# EAGLE library part EFM32G880F64 (library EnergyMicro)
EFM32G880F64 Gecko Microcontroller in 14mm x 14mm QFP100 package
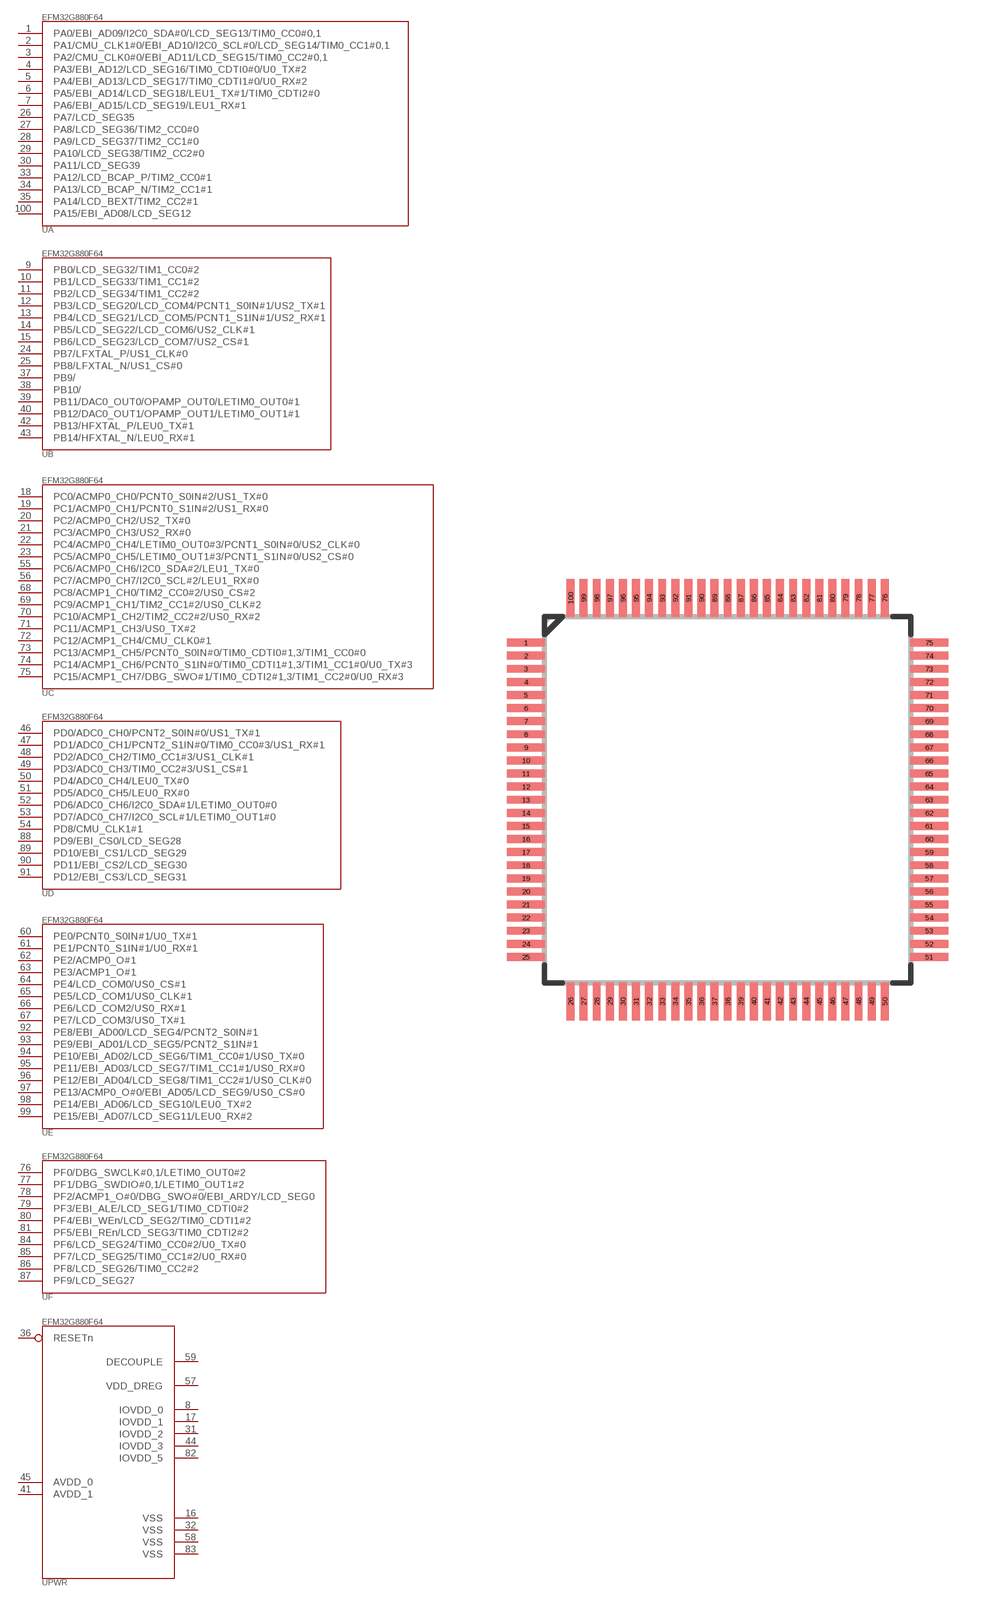
[diagram p27: symbol with the pads of QFP100; footprint QFP100]

Designator prefix -; gates A=EFM32G880F64_A B=EFM32G880F64_B C=EFM32G880F64_C D=EFM32G880F64_D E=EFM32G880F64_E F=EFM32G880F64_F PWR=EFM32G880F64_PWR

## EFM32G880F64  [QFP100]
1  A:PA0/EBI_AD09/I2C0_SDA#0/LCD_SEG13/TIM0_CC0#0,1
2  A:PA1/CMU_CLK1#0/EBI_AD10/I2C0_SCL#0/LCD_SEG14/TIM0_CC1#0,1
3  A:PA2/CMU_CLK0#0/EBI_AD11/LCD_SEG15/TIM0_CC2#0,1
4  A:PA3/EBI_AD12/LCD_SEG16/TIM0_CDTI0#0/U0_TX#2
5  A:PA4/EBI_AD13/LCD_SEG17/TIM0_CDTI1#0/U0_RX#2
6  A:PA5/EBI_AD14/LCD_SEG18/LEU1_TX#1/TIM0_CDTI2#0
7  A:PA6/EBI_AD15/LCD_SEG19/LEU1_RX#1
8  PWR:IOVDD_0  pwr
9  B:PB0/LCD_SEG32/TIM1_CC0#2
10  B:PB1/LCD_SEG33/TIM1_CC1#2
11  B:PB2/LCD_SEG34/TIM1_CC2#2
12  B:PB3/LCD_SEG20/LCD_COM4/PCNT1_S0IN#1/US2_TX#1
13  B:PB4/LCD_SEG21/LCD_COM5/PCNT1_S1IN#1/US2_RX#1
14  B:PB5/LCD_SEG22/LCD_COM6/US2_CLK#1
15  B:PB6/LCD_SEG23/LCD_COM7/US2_CS#1
16  PWR:VSS  pwr
17  PWR:IOVDD_1  pwr
18  C:PC0/ACMP0_CH0/PCNT0_S0IN#2/US1_TX#0
19  C:PC1/ACMP0_CH1/PCNT0_S1IN#2/US1_RX#0
20  C:PC2/ACMP0_CH2/US2_TX#0
21  C:PC3/ACMP0_CH3/US2_RX#0
22  C:PC4/ACMP0_CH4/LETIM0_OUT0#3/PCNT1_S0IN#0/US2_CLK#0
23  C:PC5/ACMP0_CH5/LETIM0_OUT1#3/PCNT1_S1IN#0/US2_CS#0
24  B:PB7/LFXTAL_P/US1_CLK#0
25  B:PB8/LFXTAL_N/US1_CS#0
26  A:PA7/LCD_SEG35
27  A:PA8/LCD_SEG36/TIM2_CC0#0
28  A:PA9/LCD_SEG37/TIM2_CC1#0
29  A:PA10/LCD_SEG38/TIM2_CC2#0
30  A:PA11/LCD_SEG39
31  PWR:IOVDD_2  pwr
32  PWR:VSS  pwr
33  A:PA12/LCD_BCAP_P/TIM2_CC0#1
34  A:PA13/LCD_BCAP_N/TIM2_CC1#1
35  A:PA14/LCD_BEXT/TIM2_CC2#1
36  PWR:RESETn  pas
37  B:PB9/
38  B:PB10/
39  B:PB11/DAC0_OUT0/OPAMP_OUT0/LETIM0_OUT0#1
40  B:PB12/DAC0_OUT1/OPAMP_OUT1/LETIM0_OUT1#1
41  PWR:AVDD_1  pwr
42  B:PB13/HFXTAL_P/LEU0_TX#1
43  B:PB14/HFXTAL_N/LEU0_RX#1
44  PWR:IOVDD_3  pwr
45  PWR:AVDD_0  pwr
46  D:PD0/ADC0_CH0/PCNT2_S0IN#0/US1_TX#1
47  D:PD1/ADC0_CH1/PCNT2_S1IN#0/TIM0_CC0#3/US1_RX#1
48  D:PD2/ADC0_CH2/TIM0_CC1#3/US1_CLK#1
49  D:PD3/ADC0_CH3/TIM0_CC2#3/US1_CS#1
50  D:PD4/ADC0_CH4/LEU0_TX#0
51  D:PD5/ADC0_CH5/LEU0_RX#0
52  D:PD6/ADC0_CH6/I2C0_SDA#1/LETIM0_OUT0#0
53  D:PD7/ADC0_CH7/I2C0_SCL#1/LETIM0_OUT1#0
54  D:PD8/CMU_CLK1#1
55  C:PC6/ACMP0_CH6/I2C0_SDA#2/LEU1_TX#0
56  C:PC7/ACMP0_CH7/I2C0_SCL#2/LEU1_RX#0
57  PWR:VDD_DREG  pwr
58  PWR:VSS  pwr
59  PWR:DECOUPLE  pwr
60  E:PE0/PCNT0_S0IN#1/U0_TX#1
61  E:PE1/PCNT0_S1IN#1/U0_RX#1
62  E:PE2/ACMP0_O#1
63  E:PE3/ACMP1_O#1
64  E:PE4/LCD_COM0/US0_CS#1
65  E:PE5/LCD_COM1/US0_CLK#1
66  E:PE6/LCD_COM2/US0_RX#1
67  E:PE7/LCD_COM3/US0_TX#1
68  C:PC8/ACMP1_CH0/TIM2_CC0#2/US0_CS#2
69  C:PC9/ACMP1_CH1/TIM2_CC1#2/US0_CLK#2
70  C:PC10/ACMP1_CH2/TIM2_CC2#2/US0_RX#2
71  C:PC11/ACMP1_CH3/US0_TX#2
72  C:PC12/ACMP1_CH4/CMU_CLK0#1
73  C:PC13/ACMP1_CH5/PCNT0_S0IN#0/TIM0_CDTI0#1,3/TIM1_CC0#0
74  C:PC14/ACMP1_CH6/PCNT0_S1IN#0/TIM0_CDTI1#1,3/TIM1_CC1#0/U0_TX#3
75  C:PC15/ACMP1_CH7/DBG_SWO#1/TIM0_CDTI2#1,3/TIM1_CC2#0/U0_RX#3
76  F:PF0/DBG_SWCLK#0,1/LETIM0_OUT0#2
77  F:PF1/DBG_SWDIO#0,1/LETIM0_OUT1#2
78  F:PF2/ACMP1_O#0/DBG_SWO#0/EBI_ARDY/LCD_SEG0
79  F:PF3/EBI_ALE/LCD_SEG1/TIM0_CDTI0#2
80  F:PF4/EBI_WEn/LCD_SEG2/TIM0_CDTI1#2
81  F:PF5/EBI_REn/LCD_SEG3/TIM0_CDTI2#2
82  PWR:IOVDD_5  pwr
83  PWR:VSS  pwr
84  F:PF6/LCD_SEG24/TIM0_CC0#2/U0_TX#0
85  F:PF7/LCD_SEG25/TIM0_CC1#2/U0_RX#0
86  F:PF8/LCD_SEG26/TIM0_CC2#2
87  F:PF9/LCD_SEG27
88  D:PD9/EBI_CS0/LCD_SEG28
89  D:PD10/EBI_CS1/LCD_SEG29
90  D:PD11/EBI_CS2/LCD_SEG30
91  D:PD12/EBI_CS3/LCD_SEG31
92  E:PE8/EBI_AD00/LCD_SEG4/PCNT2_S0IN#1
93  E:PE9/EBI_AD01/LCD_SEG5/PCNT2_S1IN#1
94  E:PE10/EBI_AD02/LCD_SEG6/TIM1_CC0#1/US0_TX#0
95  E:PE11/EBI_AD03/LCD_SEG7/TIM1_CC1#1/US0_RX#0
96  E:PE12/EBI_AD04/LCD_SEG8/TIM1_CC2#1/US0_CLK#0
97  E:PE13/ACMP0_O#0/EBI_AD05/LCD_SEG9/US0_CS#0
98  E:PE14/EBI_AD06/LCD_SEG10/LEU0_TX#2
99  E:PE15/EBI_AD07/LCD_SEG11/LEU0_RX#2
100  A:PA15/EBI_AD08/LCD_SEG12

## Footprint QFP100 (pad centres in mm)
smd 1.45 x 0.3: 1 -7.7,6; 2 -7.7,5.5; 3 -7.7,5; 4 -7.7,4.5; 5 -7.7,4; 6 -7.7,3.5; 7 -7.7,3; 8 -7.7,2.5; 9 -7.7,2; 10 -7.7,1.5; 11 -7.7,1; 12 -7.7,0.5; 13 -7.7,0; 14 -7.7,-0.5; 15 -7.7,-1; 16 -7.7,-1.5; 17 -7.7,-2; 18 -7.7,-2.5; 19 -7.7,-3; 20 -7.7,-3.5; 21 -7.7,-4; 22 -7.7,-4.5; 23 -7.7,-5; 24 -7.7,-5.5; 25 -7.7,-6; 51 7.7,-6; 52 7.7,-5.5; 53 7.7,-5; 54 7.7,-4.5; 55 7.7,-4; 56 7.7,-3.5; 57 7.7,-3; 58 7.7,-2.5; 59 7.7,-2; 60 7.7,-1.5; 61 7.7,-1; 62 7.7,-0.5; 63 7.7,0; 64 7.7,0.5; 65 7.7,1; 66 7.7,1.5; 67 7.7,2; 68 7.7,2.5; 69 7.7,3; 70 7.7,3.5; 71 7.7,4; 72 7.7,4.5; 73 7.7,5; 74 7.7,5.5; 75 7.7,6
smd 0.3 x 1.45: 26 -6,-7.7; 27 -5.5,-7.7; 28 -5,-7.7; 29 -4.5,-7.7; 30 -4,-7.7; 31 -3.5,-7.7; 32 -3,-7.7; 33 -2.5,-7.7; 34 -2,-7.7; 35 -1.5,-7.7; 36 -1,-7.7; 37 -0.5,-7.7; 38 0,-7.7; 39 0.5,-7.7; 40 1,-7.7; 41 1.5,-7.7; 42 2,-7.7; 43 2.5,-7.7; 44 3,-7.7; 45 3.5,-7.7; 46 4,-7.7; 47 4.5,-7.7; 48 5,-7.7; 49 5.5,-7.7; 50 6,-7.7; 76 6,7.7; 77 5.5,7.7; 78 5,7.7; 79 4.5,7.7; 80 4,7.7; 81 3.5,7.7; 82 3,7.7; 83 2.5,7.7; 84 2,7.7; 85 1.5,7.7; 86 1,7.7; 87 0.5,7.7; 88 0,7.7; 89 -0.5,7.7; 90 -1,7.7; 91 -1.5,7.7; 92 -2,7.7; 93 -2.5,7.7; 94 -3,7.7; 95 -3.5,7.7; 96 -4,7.7; 97 -4.5,7.7; 98 -5,7.7; 99 -5.5,7.7; 100 -6,7.7